# Altium schematic symbol library Capacitors.SCHLIB: 48 symbols
Pins are listed as number, name and electrical type; pins without a type are passive.

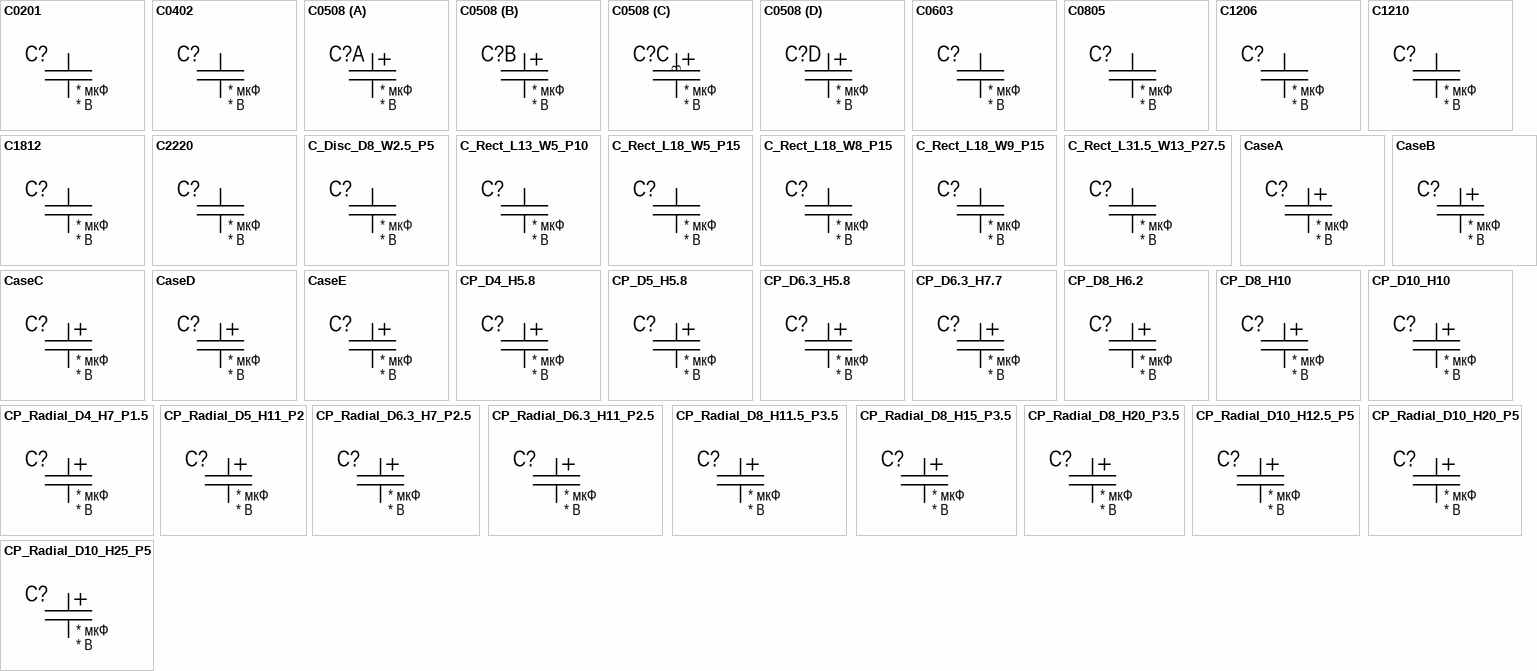
[diagram p0: symbols C0201 to CP_Radial_D10_H25_P5]

## C0201
designator C?, comment value * мкФ  Voltage: * В  (hidden comment: 0402 X7R * мкФ±10% * В)
Ceramic Chip Capacitor Case 0402; Tolerance: ±10%; Dielectric: X7R; Package: 0402
footprint C0201_HD (Chip Capacitor, 2-Leads, Body 0.60x0.30mm, IPC High Density)
footprint C0201_LD (Chip Capacitor, 2-Leads, Body 0.60x0.30mm, IPC Low Density)
footprint C0201_MD (Chip Capacitor, 2-Leads, Body 0.60x0.30mm, IPC Medium Density)
pins: 1 (power), 2 (power)
1 alternate drawing of the same symbol

## C0402
designator C?, comment value * мкФ  Voltage: * В  (hidden comment: 0402 X7R * мкФ±10% * В)
Ceramic Chip Capacitor Case 0402; Tolerance: ±10%; Dielectric: X7R; Package: 0402
footprint C0402_HD (Chip Capacitor, 2-Leads, Body 1.0x0.5mm, IPC High Density)
footprint C0402_LD (Chip Capacitor, 2-Leads, Body 1.0x0.5mm, IPC Low Density)
footprint C0402_MD (Chip Capacitor, 2-Leads, Body 1.0x0.5mm, IPC Medium Density)
pins: 1 (power), 2 (power)
1 alternate drawing of the same symbol

## C0508
designator C?, comment value * мкФ  Voltage: * В  (hidden comment: 0508 X7R * мкФ±10% * В)
Ceramic Chip Capacitor Array Case 0402; Tolerance: ±10%; Package: 0508; Dielectric: X7R
footprint C0508_MD
part A pins: 1 (power), 8 (power)
part B pins: 2 (power), 7 (power)
part C pins: 3 (power), 6 (power)
part D pins: 4 (power), 5 (power)

## C0603
designator C?, comment value * мкФ  Voltage: * В  (hidden comment: 0603 X7R * мкФ±10% * В)
Ceramic Chip Capacitor Case 0603; Tolerance: ±10%; Package: 0603; Dielectric: X7R
footprint C0603_HD (Chip Capacitor, 2-Leads, Body 1.6x0.8mm, IPC High Density)
footprint C0603_LD (Chip Capacitor, 2-Leads, Body 1.6x0.8mm, IPC Low Density)
footprint C0603_MD (Chip Capacitor, 2-Leads, Body 1.6x0.8mm, IPC Medium Density Density)
pins: 1 (power), 2 (power)
1 alternate drawing of the same symbol

## C0805
designator C?, comment value * мкФ  Voltage: * В  (hidden comment: 0805 X7R * мкФ±10% * В)
Ceramic Chip Capacitor Case 0805; Tolerance: ±10%; Package: 0805; Dielectric: X7R
footprint C0805_MD (Chip Capacitor, 2-Leads, Body 2.0x1.25mm, IPC Medium Density)
footprint C0805_HD (Chip Capacitor, 2-Leads, Body 2.0x1.25mm, IPC High Density)
footprint C0805_LD (Chip Capacitor, 2-Leads, Body 2.0x1.25mm, IPC Low Density)
pins: 1 (power), 2 (power)
1 alternate drawing of the same symbol

## C1206
designator C?, comment value * мкФ  Voltage: * В  (hidden comment: 1206 X7R * мкФ±20% * В)
Ceramic Chip Capacitor Case 1206; Tolerance: ±20%; Package: 1206; Dielectric: X7R
footprint C1206_MD (Chip Capacitor, 2-Leads, Body 3.2x1.6mm, IPC Medium Density)
footprint C1206_HD (Chip Capacitor, 2-Leads, Body 3.2x1.6mm, IPC High Density)
footprint C1206_LD (Chip Capacitor, 2-Leads, Body 3.2x1.6mm, IPC Low Density)
pins: 1 (power), 2 (power)
1 alternate drawing of the same symbol

## C1210
designator C?, comment value * мкФ  Voltage: * В  (hidden comment: 1210 X7R * мкФ±20% * В)
Ceramic Chip Capacitor Case 1210; Tolerance: ±20%; Package: 1210; Dielectric: X7R
footprint C1210_MD (Chip Capacitor, 2-Leads, Body 3.2x2.6mm, IPC Medium Density)
footprint C1210_LD (Chip Capacitor, 2-Leads, Body 3.2x2.6mm, IPC Low Density)
footprint C1210_HD (Chip Capacitor, 2-Leads, Body 3.2x2.6mm, IPC High Density)
pins: 1 (power), 2 (power)
1 alternate drawing of the same symbol

## C1812
designator C?, comment value * мкФ  Voltage: * В  (hidden comment: 1812 X7R * мкФ±10% * В)
Ceramic Chip Capacitor Case 1812; Tolerance: ±10%; Dielectric: X7R; Package: 1812
footprint C1812_MD (Chip Capacitor, 2-Leads, Body 4.5x3.2mm, IPC Medium Density)
footprint C1210_HD (Chip Capacitor, 2-Leads, Body 3.2x2.6mm, IPC High Density)
footprint C1812_LD (Chip Capacitor, 2-Leads, Body 4.5x3.2mm, IPC Low Density)
pins: 1 (power), 2 (power)
1 alternate drawing of the same symbol

## C2220
designator C?, comment value * мкФ  Voltage: * В  (hidden comment: 2220 X7R * мкФ±10% * В)
Ceramic Chip Capacitor Case 2220; Tolerance: ±10%; Dielectric: X7R; Package: 2220
footprint C2220_HD
pins: 1 (power), 2 (power)
1 alternate drawing of the same symbol

## C_Disc_D8_W2.5_P5
designator C?, comment value * мкФ  Voltage: * В  (hidden comment: 8x2,5 Y5P * мкФ±10% * В)
Ceramic Disc Capacitor, Diameter 8mm, Width 2.5mm, Pitch 5mm; Tolerance: ±10%; Dielectric: Y5P; Package: 8x2,5
footprint C_Disc_D8_W2.5_P5
pins: 1 (power), 2 (power)
1 alternate drawing of the same symbol

## C_Rect_L13_W5_P10
designator C?, comment value * мкФ  Voltage: * В  (hidden comment: 13x5x10 X2 * мкФ±20% * В)
Mettalized Polyestr Film Capacitor, Length 13 mm, Width 5mm, Pitch 10mm; Tolerance: ±20%; Dielectric: X2; Package: 13x5x10
footprint C_Rect_L13_W5_P10
pins: 1 (power), 2 (power)

## C_Rect_L18_W5_P15
designator C?, comment value * мкФ  Voltage: * В  (hidden comment: 18x5x15 X2 * мкФ±20% * В)
Mettalized Polyestr Film Capacitor, Length 18mm, Width 5mm, Pitch 15mm; Tolerance: ±20%; Dielectric: X2; Package: 18x5x15
footprint C_Rect_L18_W5_P15
pins: 1 (power), 2 (power)

## C_Rect_L18_W8_P15
designator C?, comment value * мкФ  Voltage: * В  (hidden comment: 18x8x15 X2 * мкФ±10% * В)
Mettalized Polyestr Film Capacitor, Length 18mm, Width 8mm, Pitch 15mm; Tolerance: ±10%; Package: 18x8x15; Dielectric: X2
footprint C_Rect_L18_W8_P15
pins: 1 (power), 2 (power)
1 alternate drawing of the same symbol

## C_Rect_L18_W9_P15
designator C?, comment value * мкФ  Voltage: * В  (hidden comment: 18x9x15 X2 * мкФ±10% * В)
Mettalized Polyestr Film Capacitor, Length 18mm, Width 9mm, Pitch 15mm; Tolerance: ±10%; Package: 18x9x15; Dielectric: X2
footprint C_Rect_L18_W9_P15
pins: 1 (power), 2 (power)
1 alternate drawing of the same symbol

## C_Rect_L31.5_W13_P27.5
designator C?, comment value * мкФ  Voltage: * В  (hidden comment: 31,5x13x27,5 X2 * мкФ±10% * В)
Mettalized Polyestr Film Capacitor, Length 31.5mm, Width 13mm, Pitch 27.5mm; Tolerance: ±10%; Package: 31,5x13x27,5; Dielectric: X2
footprint C_Rect_L31.5_W13_P27.5
pins: 1 (power), 2 (power)
1 alternate drawing of the same symbol

## CaseA
designator C?, comment value * мкФ  Voltage: * В  (hidden comment: Конденсатор танталовый 3216 * мкФ±20% * В)
Tantalum Chip Capacitor Case A; Tolerance: ±20%; Package: 3216; Type: Конденсатор танталовый
footprint TC_CASE_A (3216) (Tantalum Chip Capacitor, 2-Leads, Body 3.2x1.6mm, IPC Medium Density)
pins: 1 (power), 2 (power)
1 alternate drawing of the same symbol

## CaseB
designator C?, comment value * мкФ  Voltage: * В  (hidden comment: Конденсатор танталовый 3528 * мкФ±20% * В)
Tantalum Chip Capacitor Case B; Tolerance: ±20%; Package: 3528; Type: Конденсатор танталовый
footprint TC_CASE_B (3528) (Tantalum Chip Capacitor, 2-Leads, Body 3.5x2.8mm, IPC Medium Density)
pins: 1 (power), 2 (power)
1 alternate drawing of the same symbol

## CaseC
designator C?, comment value * мкФ  Voltage: * В  (hidden comment: Конденсатор танталовый 6032 * мкФ±20% * В)
Tantalum Chip Capacitor Case C; Tolerance: ±20%; Package: 6032; Type: Конденсатор танталовый
footprint TC_CASE_C (6032) (Tantalum Chip Capacitor, 2-Leads, Body 6.0x3.2mm, IPC Medium Density)
pins: 1 (power), 2 (power)
1 alternate drawing of the same symbol

## CaseD
designator C?, comment value * мкФ  Voltage: * В  (hidden comment: Конденсатор танталовый 7343 * мкФ±20% * В)
Tantalum Chip Capacitor Case D; Tolerance: ±20%; Package: 7343; Type: Конденсатор танталовый
footprint TC_CASE_D (7343) (Tantalum Chip Capacitor, 2-Leads, Body 7.3x4.3mm, IPC Medium Density)
pins: 1 (power), 2 (power)
1 alternate drawing of the same symbol

## CaseE
designator C?, comment value * мкФ  Voltage: * В  (hidden comment: Конденсатор танталовый 7360 * мкФ±20% * В)
Tantalum Chip Capacitor Case E; Tolerance: ±20%; Package: 7360; Type: Конденсатор танталовый
footprint TC_CASE_E (7360) (Tantalum Chip Capacitor, 2-Leads, Body 7.3x6.0mm, IPC Medium Density)
pins: 1 (power), 2 (power)
1 alternate drawing of the same symbol

## CP_D4_H5.8
designator C?, comment value * мкФ  Voltage: * В  (hidden comment: Конденсатор электролитический SMD 4x5,8 * мкФ±20% * В)
SMD Electrolytic Capacitor, Diameter 4mm, Height 5.8mm; Tolerance: ±20%; Type: Конденсатор электролитический SMD; Package: 4x5,8
footprint CP_D4_H5.8
pins: 1 (power), 2 (power)

## CP_D5_H5.8
designator C?, comment value * мкФ  Voltage: * В  (hidden comment: Конденсатор электролитический SMD 5x5,8 * мкФ±20% * В)
SMD Electrolytic Capacitor, Diameter 5mm, Height 5.8mm; Tolerance: ±20%; Type: Конденсатор электролитический SMD; Package: 5x5,8
footprint CP_D5_H5.8
pins: 1 (power), 2 (power)

## CP_D6.3_H5.8
designator C?, comment value * мкФ  Voltage: * В  (hidden comment: Конденсатор электролитический SMD 6,3x5,8 * мкФ±20% * В)
SMD Electrolytic Capacitor, Diameter 6.3mm, Height 5.8mm; Tolerance: ±20%; Type: Конденсатор электролитический SMD; Package: 6,3x5,8
footprint CP_D6.3_H5.8
pins: 1 (power), 2 (power)

## CP_D6.3_H7.7
designator C?, comment value * мкФ  Voltage: * В  (hidden comment: Конденсатор электролитический SMD 6,3x7,7 * мкФ±20% * В)
SMD Electrolytic Capacitor, Diameter 6.3mm, Height 7.7mm; Tolerance: ±20%; Type: Конденсатор электролитический SMD; Package: 6,3x7,7
footprint CP_D6.3_H7.7
pins: 1 (power), 2 (power)

## CP_D8_H6.2
designator C?, comment value * мкФ  Voltage: * В  (hidden comment: Конденсатор электролитический SMD 8x6,2 * мкФ±20% * В)
SMD Electrolytic Capacitor, Diameter 8mm, Height 6.2mm; Tolerance: ±20%; Type: Конденсатор электролитический SMD; Package: 8x6,2
footprint CP_D8_H6.2
pins: 1 (power), 2 (power)

## CP_D8_H10
designator C?, comment value * мкФ  Voltage: * В  (hidden comment: Конденсатор электролитический SMD 8x10 * мкФ±20% * В)
SMD Electrolytic Capacitor, Diameter 8mm, Height 10mm; Tolerance: ±20%; Type: Конденсатор электролитический SMD; Package: 8x10
footprint CP_D8_H10
pins: 1 (power), 2 (power)

## CP_D10_H10
designator C?, comment value * мкФ  Voltage: * В  (hidden comment: Конденсатор электролитический SMD 10x10 * мкФ±20% * В)
SMD Electrolytic Capacitor, Diameter 10mm, Height 10mm; Tolerance: ±20%; Type: Конденсатор электролитический SMD; Package: 10x10
footprint CP_D10_H10
pins: 1 (power), 2 (power)

## CP_Radial_D4_H7_P1.5
designator C?, comment value * мкФ  Voltage: * В  (hidden comment: Конденсатор электролитический 4x7x1,5 * мкФ±20% * В)
Electrolytic Capacitor, Diameter 4mm, Height 7mm, Pitch 1.5mm; Tolerance: ±20%; Type: Конденсатор электролитический; Package: 4x7x1,5
footprint CP_Radial_D4_H7_P1.5
pins: 1 (power), 2 (power)

## CP_Radial_D5_H11_P2
designator C?, comment value * мкФ  Voltage: * В  (hidden comment: Конденсатор электролитический 5х11х1,5 * мкФ±20% * В)
Electrolytic Capacitor, Diameter 5mm, Height 11mm, Pitch 2mm; Tolerance: ±20%; Type: Конденсатор электролитический; Package: 5х11х1,5
footprint CP_RADIAL_D5_H11_P2
pins: 1 (power), 2 (power)

## CP_Radial_D6.3_H7_P2.5
designator C?, comment value * мкФ  Voltage: * В  (hidden comment: Конденсатор электролитический 6,3x7x2,5 * мкФ±20% * В)
Electrolytic Capacitor, Diameter 6.3mm, Height 7mm, Pitch 2.5mm; Tolerance: ±20%; Type: Конденсатор электролитический; Package: 6,3x7x2,5
footprint CP_RADIAL_D6.3_H7_P2.5
pins: 1 (power), 2 (power)

## CP_Radial_D6.3_H11_P2.5
designator C?, comment value * мкФ  Voltage: * В  (hidden comment: Конденсатор электролитический 6,3x11x2,5 * мкФ±20% * В)
Electrolytic Capacitor, Diameter 6.3mm, Height 11mm, Pitch 2.5mm; Tolerance: ±20%; Type: Конденсатор электролитический; Package: 6,3x11x2,5
footprint CP_RADIAL_D6.3_H11_P2.5
pins: 1 (power), 2 (power)

## CP_Radial_D8_H11.5_P3.5
designator C?, comment value * мкФ  Voltage: * В  (hidden comment: Конденсатор электролитический 8x11,5x3,5 * мкФ±20% * В)
Electrolytic Capacitor, Diameter 8mm, Height 11.5mm, Pitch 3.5mm; Tolerance: ±20%; Type: Конденсатор электролитический; Package: 8x11,5x3,5
footprint CP_RADIAL_D8_H11.5_P3.5
pins: 1 (power), 2 (power)

## CP_Radial_D8_H15_P3.5
designator C?, comment value * мкФ  Voltage: * В  (hidden comment: Конденсатор электролитический 8x15x3,5 * мкФ±20% * В)
Electrolytic Capacitor, Diameter 8mm, Height 15mm, Pitch 3.5mm; Tolerance: ±20%; Type: Конденсатор электролитический; Package: 8x15x3,5
footprint CP_RADIAL_D8_H15_P3.5
pins: 1 (power), 2 (power)

## CP_Radial_D8_H20_P3.5
designator C?, comment value * мкФ  Voltage: * В  (hidden comment: Конденсатор электролитический 8x20x3,5 * мкФ±20% * В)
Electrolytic Capacitor, Diameter 8mm, Height 20mm, Pitch 3.5mm; Tolerance: ±20%; Type: Конденсатор электролитический; Package: 8x20x3,5
footprint CP_RADIAL_D8_H20_P3.5
pins: 1 (power), 2 (power)

## CP_Radial_D10_H12.5_P5
designator C?, comment value * мкФ  Voltage: * В  (hidden comment: Конденсатор электролитический 10x12,5x5 * мкФ±20% * В)
Electrolytic Capacitor, Diameter 10mm, Height 12.5mm, Pitch 5mm; Tolerance: ±20%; Type: Конденсатор электролитический; Package: 10x12,5x5
footprint CP_RADIAL_D10_H12.5_P5
pins: 1 (power), 2 (power)

## CP_Radial_D10_H20_P5
designator C?, comment value * мкФ  Voltage: * В  (hidden comment: Конденсатор электролитический 10x20x5 * мкФ±20% * В)
Electrolytic Capacitor, Diameter 10mm, Height 20mm, Pitch 5mm; Tolerance: ±20%; Type: Конденсатор электролитический; Package: 10x20x5
footprint CP_RADIAL_D10_H20_P5
pins: 1 (power), 2 (power)

## CP_Radial_D10_H25_P5
designator C?, comment value * мкФ  Voltage: * В  (hidden comment: Конденсатор электролитический 10x25x5 * мкФ±20% * В)
Electrolytic Capacitor, Diameter 10mm, Height 25mm, Pitch 5mm; Tolerance: ±20%; Type: Конденсатор электролитический; Package: 10x25x5
footprint CP_RADIAL_D10_H25_P5
pins: 1 (power), 2 (power)

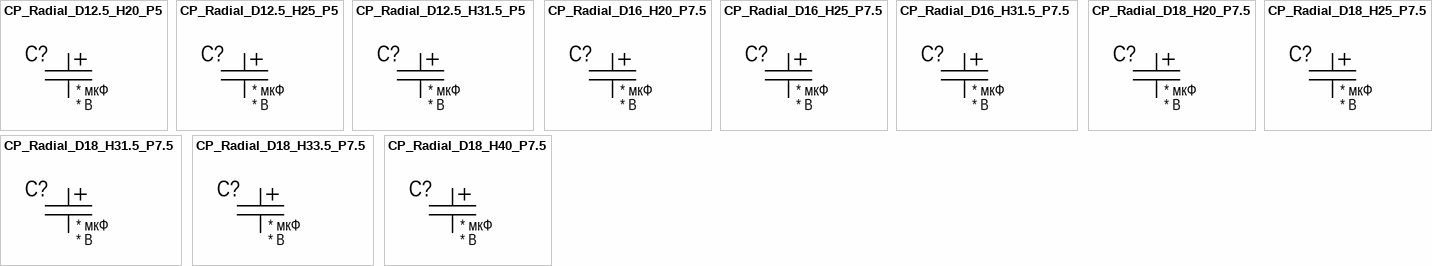
[diagram p1: symbols CP_Radial_D12.5_H20_P5 to CP_Radial_D18_H40_P7.5]

## CP_Radial_D12.5_H20_P5
designator C?, comment value * мкФ  Voltage: * В  (hidden comment: Конденсатор электролитический 12,5x20x5 * мкФ±20% * В)
Electrolytic Capacitor, Diameter 12.5mm, Height 20mm, Pitch 5mm; Tolerance: ±20%; Type: Конденсатор электролитический; Package: 12,5x20x5
footprint CP_Radial_D12.5_H20_P5
pins: 1 (power), 2 (power)

## CP_Radial_D12.5_H25_P5
designator C?, comment value * мкФ  Voltage: * В  (hidden comment: Конденсатор электролитический 12,5x25x5 * мкФ±20% * В)
Electrolytic Capacitor, Diameter 12.5mm, Height 25mm, Pitch 5mm; Tolerance: ±20%; Type: Конденсатор электролитический; Package: 12,5x25x5
footprint CP_Radial_D12.5_H25_P5
pins: 1 (power), 2 (power)

## CP_Radial_D12.5_H31.5_P5
designator C?, comment value * мкФ  Voltage: * В  (hidden comment: Конденсатор электролитический 5x12.5x31.5 * мкФ±20% * В)
Electrolytic Capacitor, Diameter 12.5mm, Height 31.5mm, Pitch 5mm; Part: 5x12.5x31.5-* мкФuF±20%-* В; Tolerance: ±20%; Units: uF; ValueSch: * мкФuF; Type: Конденсатор электролитический; Package: 5x12.5x31.5
footprint CP_Radial_D12.5_H31.5_P5
pins: 1 (power), 2 (power)

## CP_Radial_D16_H20_P7.5
designator C?, comment value * мкФ  Voltage: * В  (hidden comment: Конденсатор электролитический 16x20x7,5 * мкФ±20% * В)
Electrolytic Capacitor, Diameter 16mm, Height 20mm, Pitch 7.5mm; Tolerance: ±20%; Type: Конденсатор электролитический; Package: 16x20x7,5
footprint CP_RADIAL_D16_H20_P7.5
pins: 1 (power), 2 (power)

## CP_Radial_D16_H25_P7.5
designator C?, comment value * мкФ  Voltage: * В  (hidden comment: Конденсатор электролитический 16x25x7,5 * мкФ±20% * В)
Electrolytic Capacitor, Diameter 16mm, Height 25mm, Pitch 7.5mm; Tolerance: ±20%; Type: Конденсатор электролитический; Package: 16x25x7,5
footprint CP_RADIAL_D16_H25_P7.5
pins: 1 (power), 2 (power)

## CP_Radial_D16_H31.5_P7.5
designator C?, comment value * мкФ  Voltage: * В  (hidden comment: Конденсатор электролитический 16x31,5x7,5 * мкФ±20% * В)
Electrolytic Capacitor, Diameter 16mm, Height 31.5mm, Pitch 7.5mm; Tolerance: ±20%; Type: Конденсатор электролитический; Package: 16x31,5x7,5
footprint CP_RADIAL_D16_H31.5_P7.5
pins: 1 (power), 2 (power)

## CP_Radial_D18_H20_P7.5
designator C?, comment value * мкФ  Voltage: * В  (hidden comment: Конденсатор электролитический 18x20x7,5 * мкФ±20% * В)
Electrolytic Capacitor, Diameter 18mm, Height 20mm, Pitch 7.5mm; Tolerance: ±20%; Type: Конденсатор электролитический; Package: 18x20x7,5
footprint CP_RADIAL_D18_H20_P7.5
pins: 1 (power), 2 (power)

## CP_Radial_D18_H25_P7.5
designator C?, comment value * мкФ  Voltage: * В  (hidden comment: Конденсатор электролитический 18x25x7,5 * мкФ±20% * В)
Electrolytic Capacitor, Diameter 18mm, Height 25mm, Pitch 7.5mm; Tolerance: ±20%; Type: Конденсатор электролитический; Package: 18x25x7,5
footprint CP_RADIAL_D18_H25_P7.5
pins: 1 (power), 2 (power)

## CP_Radial_D18_H31.5_P7.5
designator C?, comment value * мкФ  Voltage: * В  (hidden comment: Конденсатор электролитический 18x31,5x7,5 * мкФ±20% * В)
Electrolytic Capacitor, Diameter 18mm, Height 31.5mm, Pitch 7.5mm; Tolerance: ±20%; Type: Конденсатор электролитический; Package: 18x31,5x7,5
footprint CP_RADIAL_D18_H31.5_P7.5
pins: 1 (power), 2 (power)

## CP_Radial_D18_H33.5_P7.5
designator C?, comment value * мкФ  Voltage: * В  (hidden comment: Конденсатор электролитический 18x33,5x7,5 * мкФ±20% * В)
Electrolytic Capacitor, Diameter 18mm, Height 33.5mm, Pitch 7.5mm; Tolerance: ±20%; Type: Конденсатор электролитический; Package: 18x33,5x7,5
footprint CP_RADIAL_D18_H33.5_P7.5
pins: 1 (power), 2 (power)

## CP_Radial_D18_H40_P7.5
designator C?, comment value * мкФ  Voltage: * В  (hidden comment: Конденсатор электролитический 18x40x7,5 * мкФ±20% * В)
Electrolytic Capacitor, Diameter 18mm, Height 40mm, Pitch 7.5mm; Tolerance: ±20%; Type: Конденсатор электролитический; Package: 18x40x7,5
footprint CP_RADIAL_D18_H40_P7.5
pins: 1 (power), 2 (power)